# EAGLE library part MCP9808 (library AddItems)
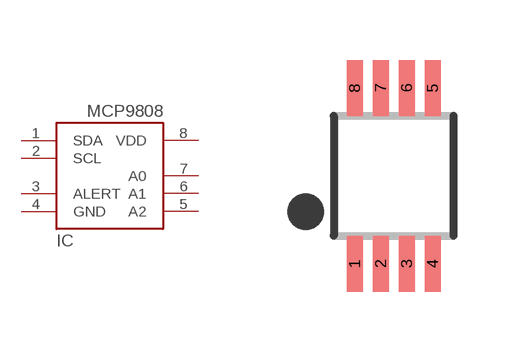
[diagram p2: symbol with the pads of MSOP8_0.65MM; footprint MSOP8_0.65MM]

Designator prefix IC

## MCP9808-E/MS  [MSOP8_0.65MM]
1  SDA
2  SCL
3  ALERT  oc
4  GND  pwr
5  A2  in
6  A1  in
7  A0  in
8  VDD  pwr

## Footprint MSOP8_0.65MM (pad centres in mm)
Source: http://www.intersil.com/data/fn/fn7833.pdf
smd 0.4 x 1.4: 1 -0.975,-2.2; 2 -0.325,-2.2; 3 0.325,-2.2; 4 0.975,-2.2; 5 0.975,2.2; 6 0.325,2.2; 7 -0.325,2.2; 8 -0.975,2.2